# EAGLE library part WIZNET_W5500 (library Upverter Library)
WIZ-W5500-LQFP-48
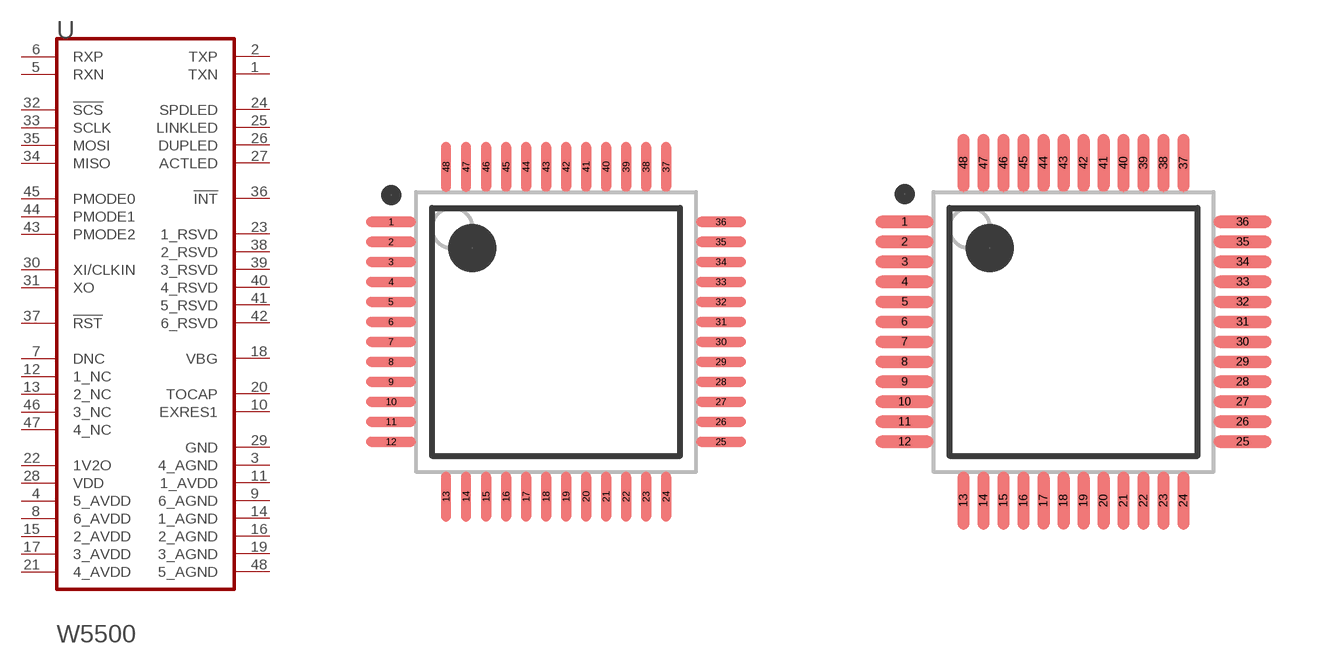
[diagram p0: symbol with the pads of WIZNET_W5500_0; footprints WIZNET_W5500_0, WIZNET_W5500_1]

Designator prefix U

## WIZNET_W5500WIZNET_W5500_0_0 (Component_Link_1_Description: Manufacturer URL; Component_Link_1_URL: http://www.wiznet.co.kr/; Datasheet_Version: Rev. 1.0.6, 12/2014; MF: WIZnet; MPN: W5500; Package_Description: 48-Pin Low-profile Quad Flat Package, Body 7.00 x 7.00 mm, Pitch 0.50 mm; ciiva_ids: 13003830; datasheet: http://wizwiki.net/wiki/lib/exe/fetch.php?media=products:w5500:w5500_ds_v106e_141230.pdf; footprint_variant_name_0: Level C; footprint_variant_name_1: Level B; footprint_variant_name_2: Level A; import_ts: 1521860843; imported: yes; imported_from: vault; package: LQFP-48; pin_0_0_2_inside_edge: clock; pin_0_0_3_inside_edge: clock; prefix: U; release_date: 1475110346; vault_guid: F06D5074-1567-4A9E-A9B5-B564BBCC9D8B; vault_revision: EA591719-BC09-4195-815B-777D58B027A2)  [WIZNET_W5500_0]
1  TXN  out
2  TXP  out
3  4_AGND  pwr
4  5_AVDD  pwr
5  RXN  in
6  RXP  in
7  DNC  pas
8  6_AVDD  pwr
9  6_AGND  pwr
10  EXRES1  pas
11  1_AVDD  pwr
12  1_NC  pas
13  2_NC  pas
14  1_AGND  pwr
15  2_AVDD  pwr
16  2_AGND  pwr
17  3_AVDD  pwr
18  VBG  pas
19  3_AGND  pwr
20  TOCAP  pas
21  4_AVDD  pwr
22  1V2O  pwr
23  1_RSVD  pas
24  SPDLED  out
25  LINKLED  out
26  DUPLED  out
27  ACTLED  out
28  VDD  pwr
29  GND  pwr
30  XI/CLKIN  in
31  XO  out
32  !SCS!  in
33  SCLK  in
34  MISO  hiz
35  MOSI  in
36  !INT!  out
37  !RST!  in
38  2_RSVD  pas
39  3_RSVD  pas
40  4_RSVD  pas
41  5_RSVD  pas
42  6_RSVD  pas
43  PMODE2  in
44  PMODE1  in
45  PMODE0  in
46  3_NC  pas
47  4_NC  pas
48  5_AGND  pwr

## WIZNET_W5500WIZNET_W5500_0_1 (Component_Link_1_Description: Manufacturer URL; Component_Link_1_URL: http://www.wiznet.co.kr/; Datasheet_Version: Rev. 1.0.6, 12/2014; MF: WIZnet; MPN: W5500; Package_Description: 48-Pin Low-profile Quad Flat Package, Body 7.00 x 7.00 mm, Pitch 0.50 mm; ciiva_ids: 13003830; datasheet: http://wizwiki.net/wiki/lib/exe/fetch.php?media=products:w5500:w5500_ds_v106e_141230.pdf; footprint_variant_name_0: Level C; footprint_variant_name_1: Level B; footprint_variant_name_2: Level A; import_ts: 1521860843; imported: yes; imported_from: vault; package: LQFP-48; pin_0_0_2_inside_edge: clock; pin_0_0_3_inside_edge: clock; prefix: U; release_date: 1475110346; vault_guid: F06D5074-1567-4A9E-A9B5-B564BBCC9D8B; vault_revision: EA591719-BC09-4195-815B-777D58B027A2)  [WIZNET_W5500_1]
Pads as for WIZNET_W5500_0

## WIZNET_W5500WIZNET_W5500_0_2 (Component_Link_1_Description: Manufacturer URL; Component_Link_1_URL: http://www.wiznet.co.kr/; Datasheet_Version: Rev. 1.0.6, 12/2014; MF: WIZnet; MPN: W5500; Package_Description: 48-Pin Low-profile Quad Flat Package, Body 7.00 x 7.00 mm, Pitch 0.50 mm; ciiva_ids: 13003830; datasheet: http://wizwiki.net/wiki/lib/exe/fetch.php?media=products:w5500:w5500_ds_v106e_141230.pdf; footprint_variant_name_0: Level C; footprint_variant_name_1: Level B; footprint_variant_name_2: Level A; import_ts: 1521860843; imported: yes; imported_from: vault; package: LQFP-48; pin_0_0_2_inside_edge: clock; pin_0_0_3_inside_edge: clock; prefix: U; release_date: 1475110346; vault_guid: F06D5074-1567-4A9E-A9B5-B564BBCC9D8B; vault_revision: EA591719-BC09-4195-815B-777D58B027A2)  [WIZNET_W5500_2]
Pads as for WIZNET_W5500_0

## Footprint WIZNET_W5500_0 (pad centres in mm)
WIZ-W5500-LQFP-48
smd 1.25 x 0.25: 1 -4.125,2.75; 2 -4.125,2.25; 3 -4.125,1.75; 4 -4.125,1.25; 5 -4.125,0.75; 6 -4.125,0.25; 7 -4.125,-0.25; 8 -4.125,-0.75; 9 -4.125,-1.25; 10 -4.125,-1.75; 11 -4.125,-2.25; 12 -4.125,-2.75; 25 4.125,-2.75; 26 4.125,-2.25; 27 4.125,-1.75; 28 4.125,-1.25; 29 4.125,-0.75; 30 4.125,-0.25; 31 4.125,0.25; 32 4.125,0.75; 33 4.125,1.25; 34 4.125,1.75; 35 4.125,2.25; 36 4.125,2.75
smd 0.25 x 1.25: 13 -2.75,-4.125; 14 -2.25,-4.125; 15 -1.75,-4.125; 16 -1.25,-4.125; 17 -0.75,-4.125; 18 -0.25,-4.125; 19 0.25,-4.125; 20 0.75,-4.125; 21 1.25,-4.125; 22 1.75,-4.125; 23 2.25,-4.125; 24 2.75,-4.125; 37 2.75,4.125; 38 2.25,4.125; 39 1.75,4.125; 40 1.25,4.125; 41 0.75,4.125; 42 0.25,4.125; 43 -0.25,4.125; 44 -0.75,4.125; 45 -1.25,4.125; 46 -1.75,4.125; 47 -2.25,4.125; 48 -2.75,4.125

## Footprint WIZNET_W5500_1 (pad centres in mm)
WIZ-W5500-LQFP-48
smd 1.45 x 0.3: 1 -4.225,2.75; 2 -4.225,2.25; 3 -4.225,1.75; 4 -4.225,1.25; 5 -4.225,0.75; 6 -4.225,0.25; 7 -4.225,-0.25; 8 -4.225,-0.75; 9 -4.225,-1.25; 10 -4.225,-1.75; 11 -4.225,-2.25; 12 -4.225,-2.75; 25 4.225,-2.75; 26 4.225,-2.25; 27 4.225,-1.75; 28 4.225,-1.25; 29 4.225,-0.75; 30 4.225,-0.25; 31 4.225,0.25; 32 4.225,0.75; 33 4.225,1.25; 34 4.225,1.75; 35 4.225,2.25; 36 4.225,2.75
smd 0.3 x 1.45: 13 -2.75,-4.225; 14 -2.25,-4.225; 15 -1.75,-4.225; 16 -1.25,-4.225; 17 -0.75,-4.225; 18 -0.25,-4.225; 19 0.25,-4.225; 20 0.75,-4.225; 21 1.25,-4.225; 22 1.75,-4.225; 23 2.25,-4.225; 24 2.75,-4.225; 37 2.75,4.225; 38 2.25,4.225; 39 1.75,4.225; 40 1.25,4.225; 41 0.75,4.225; 42 0.25,4.225; 43 -0.25,4.225; 44 -0.75,4.225; 45 -1.25,4.225; 46 -1.75,4.225; 47 -2.25,4.225; 48 -2.75,4.225

## Footprint WIZNET_W5500_2 (pad centres in mm)
WIZ-W5500-LQFP-48
smd 1.65 x 0.3: 1 -4.325,2.75; 2 -4.325,2.25; 3 -4.325,1.75; 4 -4.325,1.25; 5 -4.325,0.75; 6 -4.325,0.25; 7 -4.325,-0.25; 8 -4.325,-0.75; 9 -4.325,-1.25; 10 -4.325,-1.75; 11 -4.325,-2.25; 12 -4.325,-2.75; 25 4.325,-2.75; 26 4.325,-2.25; 27 4.325,-1.75; 28 4.325,-1.25; 29 4.325,-0.75; 30 4.325,-0.25; 31 4.325,0.25; 32 4.325,0.75; 33 4.325,1.25; 34 4.325,1.75; 35 4.325,2.25; 36 4.325,2.75
smd 0.3 x 1.65: 13 -2.75,-4.325; 14 -2.25,-4.325; 15 -1.75,-4.325; 16 -1.25,-4.325; 17 -0.75,-4.325; 18 -0.25,-4.325; 19 0.25,-4.325; 20 0.75,-4.325; 21 1.25,-4.325; 22 1.75,-4.325; 23 2.25,-4.325; 24 2.75,-4.325; 37 2.75,4.325; 38 2.25,4.325; 39 1.75,4.325; 40 1.25,4.325; 41 0.75,4.325; 42 0.25,4.325; 43 -0.25,4.325; 44 -0.75,4.325; 45 -1.25,4.325; 46 -1.75,4.325; 47 -2.25,4.325; 48 -2.75,4.325